# Altium integrated library TI Interface Display.IntLib: 133 symbols (part 6 of 16)
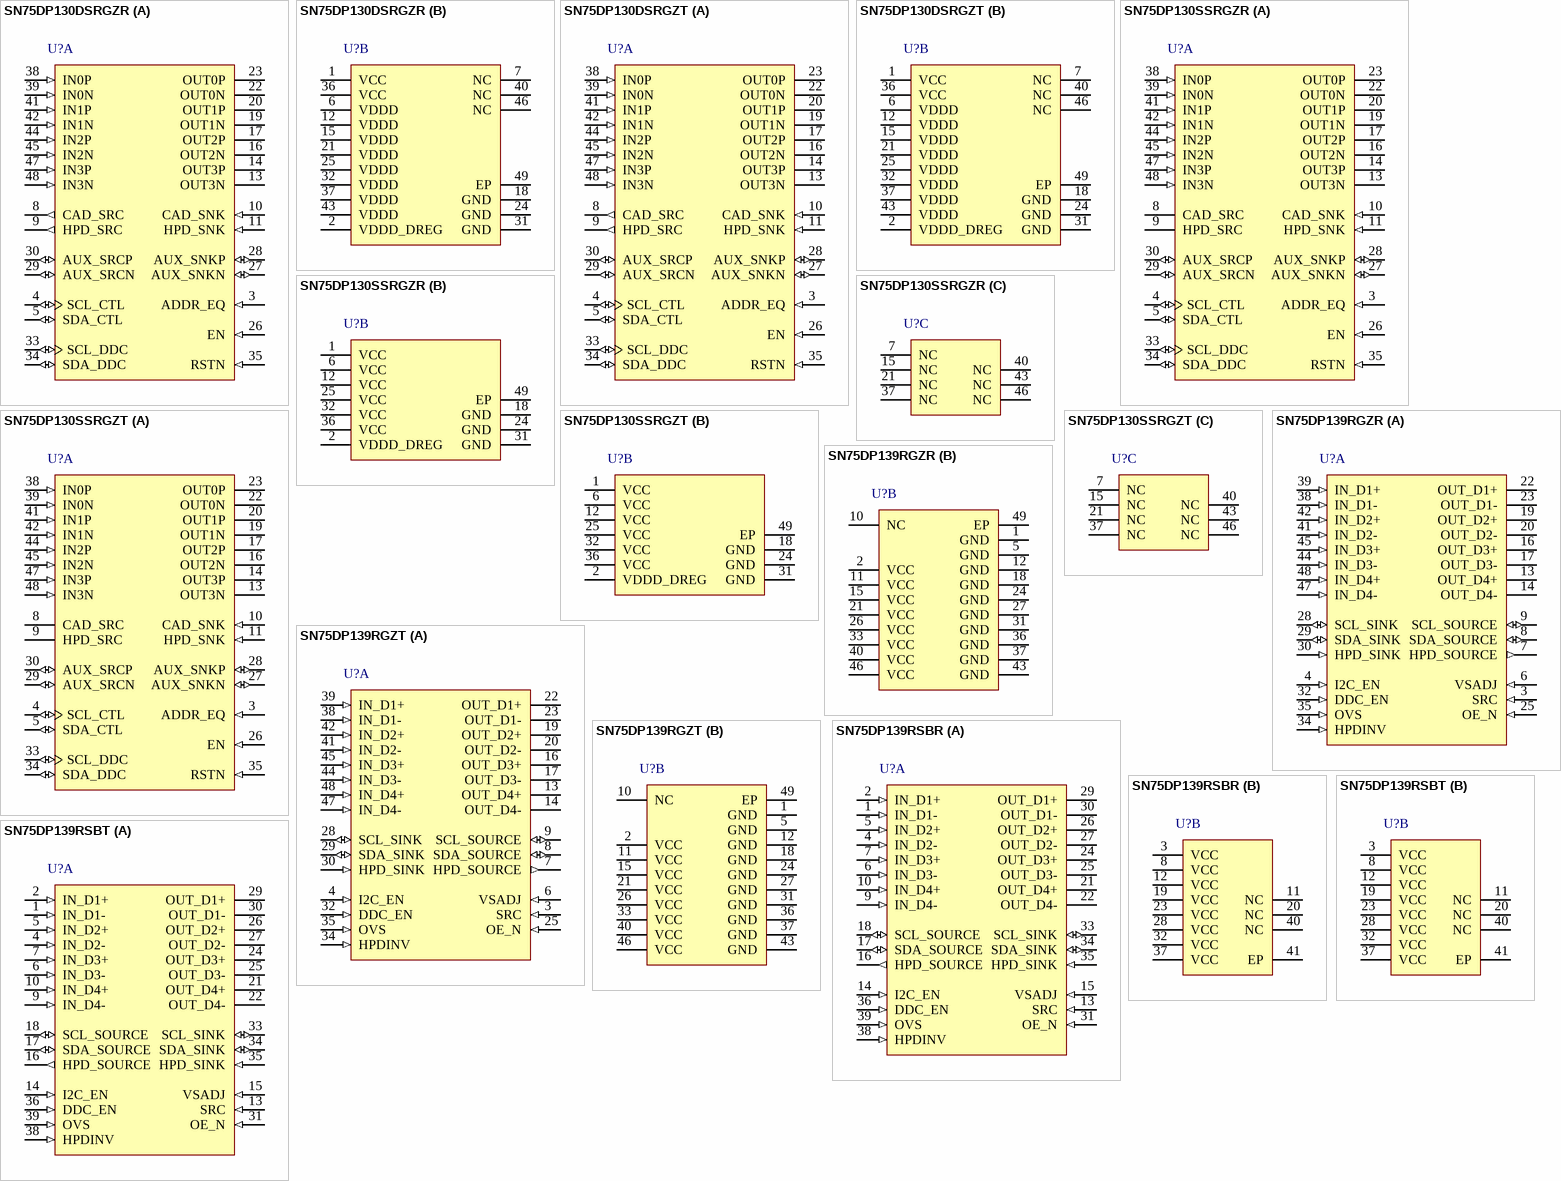
[diagram p19: symbols SN75DP130DSRGZR to SN75DP139RSBT]

## SN75DP130SSRGZR
designator U?
DisplayPort v1.2 (5.4Gbps) Re-Driver with Link Training, 0 to +85 degC, 48-pin VQFN (RGZ), Green (RoHS & no Sb/Br); Manufacturer: Texas Instruments; PartNumber: SN75DP130SSRGZR; No. of DisplayPort Dual Mode Inputs: 1; DatasheetVersion: SLLSE57B; PackageVersion: revF, Jun-2011; PackageReference: RGZ48-5600X5600TP; PackageDescription: 48-Pin Plastic Quad Flatpack No-Lead, 7 x 7 mm Body, 0.5 mm Pitch; Supplier 1: Digi-Key; Supplier Part Number 1: 296-29377-2-ND; Supplier 2: Digi-Key; Supplier Part Number 2: 296-29377-1-ND; Supplier 3: Digi-Key; Supplier Part Number 3: 296-29377-6-ND; Supplier 4: Mouser; Supplier Part Number 4: 595-SN75DP130SSRGZR; No. of DisplayPort Dual Mode Outputs: 1; SubFamily: DisplayPort; Mounting Technology: Surface Mount; Code_JEDEC: MO-220; ComponentLink1Description: Datasheet; ComponentLink1URL: http://www.ti.com/general/docs/lit/getliterature.tsp?genericPartNumber=SN75DP130&fileType=pdf
footprint RGZ48-5600X5600TP (QFN, 48-Leads, Body 7x7mm, Pitch 0.5mm, Thermal Pad 5.6x5.6mm, TI Recommended)
part A pins: 3 ADDR_EQ (in) "I2C Target Address Select and EQ Configuration Input. If the I2C bus is used, this input setting selects the I2C target address.This input also configures the input EQ to the device.", 4 SCL_CTL (io) "Bidirectional I2C interface to configure the SN75DP130. This interface is active independent of the EN input but inactive when RSTN is low.", 5 SDA_CTL (io) "Bidirectional I2C interface to configure the SN75DP130. This interface is active independent of the EN input but inactive when RSTN is low.", 8 CAD_SRC (hiz) "DP Cable Adapter Detect Output. This output typically drives the GPU CAD input.", 9 HPD_SRC (hiz) "Hot Plug Detect Output to the DisplayPort Source.", 10 CAD_SNK (in) "DisplayPort Cable Adapter Detect Input. This input tolerates a 5V supply with a supply impedance higher than 90k ohm. A device internal zener diode limits the input voltage to 3.3V. An external 1M ohm resistor to GND is (See Datasheet)", 11 HPD_SNK (in) "DisplayPort Hot Plug Detect Input from Sink. This device input is 5V tolerant. Note: Pull this input high during compliance testing or use I2C control interface to go into compliance test mode and control HPD_SNK and HPD_SRC (See Datasheet)", 13 OUT3N (hiz) "DisplayPort Main Link Lane 3 Differential Output", 14 OUT3P (hiz) "DisplayPort Main Link Lane 3 Differential Output", 16 OUT2N (hiz) "DisplayPort Main Link Lane 2 Differential Output", 17 OUT2P (hiz) "DisplayPort Main Link Lane 2 Differential Output", 19 OUT1N (hiz) "DisplayPort Main Link Lane 1 Differential Output", 20 OUT1P (hiz) "DisplayPort Main Link Lane 1 Differential Output", 22 OUT0N (hiz) "DisplayPort Main Link Lane 0 Differential Output", 23 OUT0P (hiz) "DisplayPort Main Link Lane 0 Differential Output", 26 EN (in) "Device Enable. This input incorporates an internal pullup of 200k ohm.", 27 AUX_SNKN (io) "Sink Side Bidirectional DisplayPort Auxiliary Data Channel", 28 AUX_SNKP (io) "Sink Side Bidirectional DisplayPort Auxiliary Data Channel", 29 AUX_SRCN (io) "Source Side Bidirectional DisplayPort Auxiliary Data Channel. If the AUX_SNK channel is used for monitoring only, these signals are not used and may be left open.", 30 AUX_SRCP (io) "Source Side Bidirectional DisplayPort Auxiliary Data Channel. If the AUX_SNK channel is used for monitoring only, these signals are not used and may be left open.", 33 SCL_DDC (io) "Bidirectional I2C Display Data Channel (DDC) for TMDS mode. These signals may be utilized together with AUX_SNK to form a FET switch to short-circuit the AC coupling capacitors during TMDS operation in a DP++ Dual-Mode (See Datasheet)", 34 SDA_DDC (io) "Bidirectional I2C Display Data Channel (DDC) for TMDS mode. These signals may be utilized together with AUX_SNK to form a FET switch to short-circuit the AC coupling capacitors during TMDS operation in a DP++ Dual-Mode (See Datasheet)", 35 RSTN (in) "Active Low Device Reset. This input includes a 150k ohm resistor to the VDDD core supply. An external capacitor to GND is recommended on the RSTN input to provide a power-up delay. This signal is used to place the SN75DP130 (See Datasheet)", 38 IN0P (in) "DisplayPort Main Link Lane 0 Differential Input", 39 IN0N (in) "DisplayPort Main Link Lane 0 Differential Input", 41 IN1P (in) "DisplayPort Main Link Lane 1 Differential Input", 42 IN1N (in) "DisplayPort Main Link Lane 1 Differential Input", 44 IN2P (in) "DisplayPort Main Link Lane 2 Differential Input", 45 IN2N (in) "DisplayPort Main Link Lane 2 Differential Input", 47 IN3P (in) "DisplayPort Main Link Lane 3 Differential Input", 48 IN3N (in) "DisplayPort Main Link Lane 3 Differential Input"
part B pins: 1 VCC (power) "3.3V Supply", 2 VDDD_DREG (power) "Digital voltage regulator decoupling; install 1uF to GND.", 6 VCC (power) "3.3V Supply", 12 VCC (power) "3.3V Supply", 18 GND (power) "Ground. Reference GND connections include the device package exposed thermal pad.", 24 GND (power) "Ground. Reference GND connections include the device package exposed thermal pad.", 25 VCC (power) "3.3V Supply", 31 GND (power) "Ground. Reference GND connections include the device package exposed thermal pad.", 32 VCC (power) "3.3V Supply", 36 VCC (power) "3.3V Supply", 49 EP "Exposed Thermal Pad"
part C pins: 7 NC "No Connect. These terminals may be left unconnected, or connect to GND.", 15 NC "No Connect. These terminals may be left unconnected, or connect to GND.", 21 NC "No Connect. These terminals may be left unconnected, or connect to GND.", 37 NC "No Connect. These terminals may be left unconnected, or connect to GND.", 40 NC "No Connect. These terminals may be left unconnected, or connect to GND.", 43 NC "No Connect. These terminals may be left unconnected, or connect to GND.", 46 NC "No Connect. These terminals may be left unconnected, or connect to GND."

## SN75DP130SSRGZT
designator U?
DisplayPort v1.2 (5.4 Gbps) Re-Driver with Link Training with1 Dual Mode Output, 0 to +85 degC, 48-pin VQFN (RGZ), Green (RoHS & no Sb/Br); Manufacturer: Texas Instruments; PartNumber: SN75DP130SSRGZT; No. of DisplayPort Dual Mode Inputs: 1; DatasheetVersion: SLLSE57B; PackageVersion: revF, Jun-2011; PackageReference: RGZ48-5600X5600TP; PackageDescription: 48-Pin Plastic Quad Flatpack No-Lead, 7 x 7 mm Body, 0.5 mm Pitch; Supplier 1: Digi-Key; Supplier Part Number 1: SN75DP130SSRGZT-ND; Supplier 2: Newark; Supplier Part Number 2: 48T4599; Supplier 3: Mouser; Supplier Part Number 3: 595-SN75DP130SSRGZT; No. of DisplayPort Dual Mode Outputs: 1; SubFamily: DisplayPort; Mounting Technology: Surface Mount; Code_JEDEC: MO-220; ComponentLink1Description: Datasheet; ComponentLink1URL: http://www.ti.com/general/docs/lit/getliterature.tsp?genericPartNumber=SN75DP130&fileType=pdf
footprint RGZ48-5600X5600TP (QFN, 48-Leads, Body 7x7mm, Pitch 0.5mm, Thermal Pad 5.6x5.6mm, TI Recommended)
part A pins: 3 ADDR_EQ (in) "I2C Target Address Select and EQ Configuration Input. If the I2C bus is used, this input setting selects the I2C target address.This input also configures the input EQ to the device.", 4 SCL_CTL (io) "Bidirectional I2C interface to configure the SN75DP130. This interface is active independent of the EN input but inactive when RSTN is low.", 5 SDA_CTL (io) "Bidirectional I2C interface to configure the SN75DP130. This interface is active independent of the EN input but inactive when RSTN is low.", 8 CAD_SRC (hiz) "DP Cable Adapter Detect Output. This output typically drives the GPU CAD input.", 9 HPD_SRC (hiz) "Hot Plug Detect Output to the DisplayPort Source.", 10 CAD_SNK (in) "DisplayPort Cable Adapter Detect Input. This input tolerates a 5V supply with a supply impedance higher than 90k ohm. A device internal zener diode limits the input voltage to 3.3V. An external 1M ohm resistor to GND is (See Datasheet)", 11 HPD_SNK (in) "DisplayPort Hot Plug Detect Input from Sink. This device input is 5V tolerant. Note: Pull this input high during compliance testing or use I2C control interface to go into compliance test mode and control HPD_SNK and HPD_SRC (See Datasheet)", 13 OUT3N (hiz) "DisplayPort Main Link Lane 3 Differential Output", 14 OUT3P (hiz) "DisplayPort Main Link Lane 3 Differential Output", 16 OUT2N (hiz) "DisplayPort Main Link Lane 2 Differential Output", 17 OUT2P (hiz) "DisplayPort Main Link Lane 2 Differential Output", 19 OUT1N (hiz) "DisplayPort Main Link Lane 1 Differential Output", 20 OUT1P (hiz) "DisplayPort Main Link Lane 1 Differential Output", 22 OUT0N (hiz) "DisplayPort Main Link Lane 0 Differential Output", 23 OUT0P (hiz) "DisplayPort Main Link Lane 0 Differential Output", 26 EN (in) "Device Enable. This input incorporates an internal pullup of 200k ohm.", 27 AUX_SNKN (io) "Sink Side Bidirectional DisplayPort Auxiliary Data Channel", 28 AUX_SNKP (io) "Sink Side Bidirectional DisplayPort Auxiliary Data Channel", 29 AUX_SRCN (io) "Source Side Bidirectional DisplayPort Auxiliary Data Channel. If the AUX_SNK channel is used for monitoring only, these signals are not used and may be left open.", 30 AUX_SRCP (io) "Source Side Bidirectional DisplayPort Auxiliary Data Channel. If the AUX_SNK channel is used for monitoring only, these signals are not used and may be left open.", 33 SCL_DDC (io) "Bidirectional I2C Display Data Channel (DDC) for TMDS mode. These signals may be utilized together with AUX_SNK to form a FET switch to short-circuit the AC coupling capacitors during TMDS operation in a DP++ Dual-Mode (See Datasheet)", 34 SDA_DDC (io) "Bidirectional I2C Display Data Channel (DDC) for TMDS mode. These signals may be utilized together with AUX_SNK to form a FET switch to short-circuit the AC coupling capacitors during TMDS operation in a DP++ Dual-Mode (See Datasheet)", 35 RSTN (in) "Active Low Device Reset. This input includes a 150k ohm resistor to the VDDD core supply. An external capacitor to GND is recommended on the RSTN input to provide a power-up delay. This signal is used to place the SN75DP130 (See Datasheet)", 38 IN0P (in) "DisplayPort Main Link Lane 0 Differential Input", 39 IN0N (in) "DisplayPort Main Link Lane 0 Differential Input", 41 IN1P (in) "DisplayPort Main Link Lane 1 Differential Input", 42 IN1N (in) "DisplayPort Main Link Lane 1 Differential Input", 44 IN2P (in) "DisplayPort Main Link Lane 2 Differential Input", 45 IN2N (in) "DisplayPort Main Link Lane 2 Differential Input", 47 IN3P (in) "DisplayPort Main Link Lane 3 Differential Input", 48 IN3N (in) "DisplayPort Main Link Lane 3 Differential Input"
part B pins: 1 VCC (power) "3.3V Supply", 2 VDDD_DREG (power) "Digital voltage regulator decoupling; install 1uF to GND.", 6 VCC (power) "3.3V Supply", 12 VCC (power) "3.3V Supply", 18 GND (power) "Ground. Reference GND connections include the device package exposed thermal pad.", 24 GND (power) "Ground. Reference GND connections include the device package exposed thermal pad.", 25 VCC (power) "3.3V Supply", 31 GND (power) "Ground. Reference GND connections include the device package exposed thermal pad.", 32 VCC (power) "3.3V Supply", 36 VCC (power) "3.3V Supply", 49 EP "Exposed Thermal Pad"
part C pins: 7 NC "No Connect. These terminals may be left unconnected, or connect to GND.", 15 NC "No Connect. These terminals may be left unconnected, or connect to GND.", 21 NC "No Connect. These terminals may be left unconnected, or connect to GND.", 37 NC "No Connect. These terminals may be left unconnected, or connect to GND.", 40 NC "No Connect. These terminals may be left unconnected, or connect to GND.", 43 NC "No Connect. These terminals may be left unconnected, or connect to GND.", 46 NC "No Connect. These terminals may be left unconnected, or connect to GND."

## SN75DP139RGZR
designator U?
DisplayPort to TMDS Translator, 0 to +85 degC, 48-pin VQFN (RGZ), Green (RoHS & no Sb/Br); Manufacturer: Texas Instruments; PartNumber: SN75DP139RGZR; No. of DisplayPort Dual Mode Inputs: 1; DatasheetVersion: SLLS977B; PackageVersion: revF, Jun-2011; PackageReference: RGZ48-4100X4100TP; PackageDescription: 48-Pin Plastic Quad Flatpack No-Lead, 7 x 7 mm Body, 0.5 mm Pitch; Supplier 1: Digi-Key; Supplier Part Number 1: 296-24334-2-ND; Supplier 2: Digi-Key; Supplier Part Number 2: 296-24334-1-ND; Supplier 3: Digi-Key; Supplier Part Number 3: 296-24334-6-ND; Supplier 4: Newark; Supplier Part Number 4: 09R5452; Supplier 5: Mouser; Supplier Part Number 5: 595-SN75DP139RGZR; No. of TMDS Outputs: 1; SubFamily: DisplayPort; Mounting Technology: Surface Mount; Code_JEDEC: MO-220; ComponentLink1Description: Datasheet; ComponentLink1URL: http://www.ti.com/general/docs/lit/getliterature.tsp?genericPartNumber=SN75DP139&fileType=pdf
footprint RGZ48-4100X4100TP (QFN, 48-Leads, Body 7x7mm, Pitch 0.5mm, Thermal Pad 5.15x5.15mm, TI Recommended)
part A pins: 3 SRC (in) "TMDS outputs rise and fall time select", 4 I2C_EN (in) "Internal I2C register enable, used for HDMI / DVI connector differentiation", 6 VSADJ (in) "TMDS Compliant Voltage Swing Control", 7 HPD_SOURCE (out) "Hot Plug Detect Output", 8 SDA_SOURCE (io) "Source Side Bidirectional DisplayPort Auxiliary Data Line", 9 SCL_SOURCE (io) "Source Side Bidirectional DisplayPort Auxiliary Data Line", 13 OUT_D4+ (hiz) "TMDS Data Clock Differential Output", 14 OUT_D4- (hiz) "TMDS Data Clock Differential Output", 16 OUT_D3+ (hiz) "TMDS Data 0 Differential Output", 17 OUT_D3- (hiz) "TMDS Data 0 Differential Output", 19 OUT_D2+ (hiz) "TMDS Data 1 Differential Output", 20 OUT_D2- (hiz) "TMDS Data 1 Differential Output", 22 OUT_D1+ (hiz) "TMDS Data 2 Differential Output", 23 OUT_D1- (hiz) "TMDS Data 2 Differential Output", 25 OE_N (in) "Output Enable and power saving function for High Speed Differential level shifter path.", 28 SCL_SINK (io) "TMDS Port Bidirectional DDC Data Lines", 29 SDA_SINK (io) "TMDS Port Bidirectional DDC Data Lines", 30 HPD_SINK (in) "Hot Plug Detect Input", 32 DDC_EN (in) "Enables or Disables the DDC I2C buffer", 34 HPDINV (in) "HPD_SOURCE Logic and Level Select", 35 OVS (in) "DDC I2C buffer offset select", 38 IN_D1- (in) "DisplayPort Main Link Channel 0 Differential Input", 39 IN_D1+ (in) "DisplayPort Main Link Channel 0 Differential Input", 41 IN_D2- (in) "DisplayPort Main Link Channel 1 Differential Input", 42 IN_D2+ (in) "DisplayPort Main Link Channel 1 Differential Input", 44 IN_D3- (in) "DisplayPort Main Link Channel 2 Differential Input", 45 IN_D3+ (in) "DisplayPort Main Link Channel 2 Differential Input", 47 IN_D4- (in) "DisplayPort Main Link Channel 3 Differential Input", 48 IN_D4+ (in) "DisplayPort Main Link Channel 3 Differential Input"
part B pins: 1 GND (power) "Ground", 2 VCC (power) "3.3V Supply", 5 GND (power) "Ground", 10 NC "No Connect", 11 VCC (power) "3.3V Supply", 12 GND (power) "Ground", 15 VCC (power) "3.3V Supply", 18 GND (power) "Ground", 21 VCC (power) "3.3V Supply", 24 GND (power) "Ground", 26 VCC (power) "3.3V Supply", 27 GND (power) "Ground", 31 GND (power) "Ground", 33 VCC (power) "3.3V Supply", 36 GND (power) "Ground", 37 GND (power) "Ground", 40 VCC (power) "3.3V Supply", 43 GND (power) "Ground", 46 VCC (power) "3.3V Supply", 49 EP (power) "Exposed Pad"

## SN75DP139RGZT
designator U?
DisplayPort to TMDS Translator, 0 to +85 degC, 48-pin VQFN (RGZ), Green (RoHS & no Sb/Br); Manufacturer: Texas Instruments; PartNumber: SN75DP139RGZT; No. of DisplayPort Dual Mode Inputs: 1; DatasheetVersion: SLLS977B; PackageVersion: revF, Jun-2011; PackageReference: RGZ48-4100X4100TP; PackageDescription: 48-Pin Plastic Quad Flatpack No-Lead, 7 x 7 mm Body, 0.5 mm Pitch; Supplier 1: Digi-Key; Supplier Part Number 1: SN75DP139RGZT-ND; Supplier 2: Newark; Supplier Part Number 2: 09R5453; Supplier 3: Mouser; Supplier Part Number 3: 595-SN75DP139RGZT; No. of TMDS Outputs: 1; SubFamily: DisplayPort; Mounting Technology: Surface Mount; Code_JEDEC: MO-220; ComponentLink1Description: Datasheet; ComponentLink1URL: http://www.ti.com/general/docs/lit/getliterature.tsp?genericPartNumber=SN75DP139&fileType=pdf
footprint RGZ48-4100X4100TP (QFN, 48-Leads, Body 7x7mm, Pitch 0.5mm, Thermal Pad 5.15x5.15mm, TI Recommended)
part A pins: 3 SRC (in) "TMDS outputs rise and fall time select", 4 I2C_EN (in) "Internal I2C register enable, used for HDMI / DVI connector differentiation", 6 VSADJ (in) "TMDS Compliant Voltage Swing Control", 7 HPD_SOURCE (out) "Hot Plug Detect Output", 8 SDA_SOURCE (io) "Source Side Bidirectional DisplayPort Auxiliary Data Line", 9 SCL_SOURCE (io) "Source Side Bidirectional DisplayPort Auxiliary Data Line", 13 OUT_D4+ (hiz) "TMDS Data Clock Differential Output", 14 OUT_D4- (hiz) "TMDS Data Clock Differential Output", 16 OUT_D3+ (hiz) "TMDS Data 0 Differential Output", 17 OUT_D3- (hiz) "TMDS Data 0 Differential Output", 19 OUT_D2+ (hiz) "TMDS Data 1 Differential Output", 20 OUT_D2- (hiz) "TMDS Data 1 Differential Output", 22 OUT_D1+ (hiz) "TMDS Data 2 Differential Output", 23 OUT_D1- (hiz) "TMDS Data 2 Differential Output", 25 OE_N (in) "Output Enable and power saving function for High Speed Differential level shifter path.", 28 SCL_SINK (io) "TMDS Port Bidirectional DDC Data Lines", 29 SDA_SINK (io) "TMDS Port Bidirectional DDC Data Lines", 30 HPD_SINK (in) "Hot Plug Detect Input", 32 DDC_EN (in) "Enables or Disables the DDC I2C buffer", 34 HPDINV (in) "HPD_SOURCE Logic and Level Select", 35 OVS (in) "DDC I2C buffer offset select", 38 IN_D1- (in) "DisplayPort Main Link Channel 0 Differential Input", 39 IN_D1+ (in) "DisplayPort Main Link Channel 0 Differential Input", 41 IN_D2- (in) "DisplayPort Main Link Channel 1 Differential Input", 42 IN_D2+ (in) "DisplayPort Main Link Channel 1 Differential Input", 44 IN_D3- (in) "DisplayPort Main Link Channel 2 Differential Input", 45 IN_D3+ (in) "DisplayPort Main Link Channel 2 Differential Input", 47 IN_D4- (in) "DisplayPort Main Link Channel 3 Differential Input", 48 IN_D4+ (in) "DisplayPort Main Link Channel 3 Differential Input"
part B pins: 1 GND (power) "Ground", 2 VCC (power) "3.3V Supply", 5 GND (power) "Ground", 10 NC "No Connect", 11 VCC (power) "3.3V Supply", 12 GND (power) "Ground", 15 VCC (power) "3.3V Supply", 18 GND (power) "Ground", 21 VCC (power) "3.3V Supply", 24 GND (power) "Ground", 26 VCC (power) "3.3V Supply", 27 GND (power) "Ground", 31 GND (power) "Ground", 33 VCC (power) "3.3V Supply", 36 GND (power) "Ground", 37 GND (power) "Ground", 40 VCC (power) "3.3V Supply", 43 GND (power) "Ground", 46 VCC (power) "3.3V Supply", 49 EP (power) "Exposed Pad"

## SN75DP139RSBR
designator U?
DisplayPort to TMDS Translator, 0 to +85 degC, 40-pin WQFN (RSB), Green (RoHS & no Sb/Br); Manufacturer: Texas Instruments; PartNumber: SN75DP139RSBR; No. of DisplayPort Dual Mode Inputs: 1; DatasheetVersion: SLLS977B; PackageVersion: revC, May-2011; PackageReference: RSB40-3150X3150TP; PackageDescription: 40-Pin Plastic Quad Flatpack No-Lead, 5 x 5 mm Body, 0.4 mm Pitch, 3.15 x 3.15 mm Exposed Pad; Supplier 1: Digi-Key; Supplier Part Number 1: 296-30046-2-ND; Supplier 2: Digi-Key; Supplier Part Number 2: 296-30046-1-ND; Supplier 3: Digi-Key; Supplier Part Number 3: 296-30046-6-ND; Supplier 4: Newark; Supplier Part Number 4: 76T7418; Supplier 5: Mouser; Supplier Part Number 5: 595-SN75DP139RSBR; No. of TMDS Outputs: 1; SubFamily: DisplayPort; Mounting Technology: Surface Mount; ComponentLink1Description: Datasheet; ComponentLink1URL: http://www.ti.com/general/docs/lit/getliterature.tsp?genericPartNumber=SN75DP139&fileType=pdf
footprint RSB40-3150X3150TP (QFN, 40-Leads, Body 5x5mm, Pitch 0.4mm, Thermal Pad 3.15x3.15mm, TI Recommended)
part A pins: 1 IN_D1- (in) "DisplayPort Main Link Channel 0 Differential Input", 2 IN_D1+ (in) "DisplayPort Main Link Channel 0 Differential Input", 4 IN_D2- (in) "DisplayPort Main Link Channel 1 Differential Input", 5 IN_D2+ (in) "DisplayPort Main Link Channel 1 Differential Input", 6 IN_D3- (in) "DisplayPort Main Link Channel 2 Differential Input", 7 IN_D3+ (in) "DisplayPort Main Link Channel 2 Differential Input", 9 IN_D4- (in) "DisplayPort Main Link Channel 3 Differential Input", 10 IN_D4+ (in) "DisplayPort Main Link Channel 3 Differential Input", 13 SRC (in) "TMDS outputs rise and fall time select", 14 I2C_EN (in) "Internal I2C register enable, used for HDMI / DVI connector differentiation", 15 VSADJ (in) "TMDS Compliant Voltage Swing Control", 16 HPD_SOURCE (out) "Hot Plug Detect Output", 17 SDA_SOURCE (io) "Source Side Bidirectional DisplayPort Auxiliary Data Line", 18 SCL_SOURCE (io) "Source Side Bidirectional DisplayPort Auxiliary Data Line", 21 OUT_D4+ (hiz) "TMDS Data Clock Differential Output", 22 OUT_D4- (hiz) "TMDS Data Clock Differential Output", 24 OUT_D3+ (hiz) "TMDS Data 0 Differential Output", 25 OUT_D3- (hiz) "TMDS Data 0 Differential Output", 26 OUT_D2+ (hiz) "TMDS Data 1 Differential Output", 27 OUT_D2- (hiz) "TMDS Data 1 Differential Output", 29 OUT_D1+ (hiz) "TMDS Data 2 Differential Output", 30 OUT_D1- (hiz) "TMDS Data 2 Differential Output", 31 OE_N (in) "Output Enable and power saving function for High Speed Differential level shifter path.", 33 SCL_SINK (io) "TMDS Port Bidirectional DDC Data Lines", 34 SDA_SINK (io) "TMDS Port Bidirectional DDC Data Lines", 35 HPD_SINK (in) "Hot Plug Detect Input", 36 DDC_EN (in) "Enables or Disables the DDC I2C buffer", 38 HPDINV (in) "HPD_SOURCE Logic and Level Select", 39 OVS (in) "DDC I2C buffer offset select"
part B pins: 3 VCC (power) "3.3V Supply", 8 VCC (power) "3.3V Supply", 11 NC "No Connect", 12 VCC (power) "3.3V Supply", 19 VCC (power) "3.3V Supply", 20 NC "No Connect", 23 VCC (power) "3.3V Supply", 28 VCC (power) "3.3V Supply", 32 VCC (power) "3.3V Supply", 37 VCC (power) "3.3V Supply", 40 NC "No Connect", 41 EP (power) "Thermal Pad"

## SN75DP139RSBT
designator U?
DisplayPort to TMDS Translator, 0 to +85 degC, 40-pin WQFN (RSB), Green (RoHS & no Sb/Br); Manufacturer: Texas Instruments; PartNumber: SN75DP139RSBT; No. of DisplayPort Dual Mode Inputs: 1; DatasheetVersion: SLLS977B; PackageVersion: revC, May-2011; PackageReference: RSB40-3150X3150TP; PackageDescription: 40-Pin Plastic Quad Flatpack No-Lead, 5 x 5 mm Body, 0.4 mm Pitch, 3.15 x 3.15 mm Exposed Pad; Supplier 1: Digi-Key; Supplier Part Number 1: SN75DP139RSBT-ND; Supplier 2: Newark; Supplier Part Number 2: 76T7419; Supplier 3: Mouser; Supplier Part Number 3: 595-SN75DP139RSBT; No. of TMDS Outputs: 1; SubFamily: DisplayPort; Mounting Technology: Surface Mount; ComponentLink1Description: Datasheet; ComponentLink1URL: http://www.ti.com/general/docs/lit/getliterature.tsp?genericPartNumber=SN75DP139&fileType=pdf
footprint RSB40-3150X3150TP (QFN, 40-Leads, Body 5x5mm, Pitch 0.4mm, Thermal Pad 3.15x3.15mm, TI Recommended)
part A pins: 1 IN_D1- (in) "DisplayPort Main Link Channel 0 Differential Input", 2 IN_D1+ (in) "DisplayPort Main Link Channel 0 Differential Input", 4 IN_D2- (in) "DisplayPort Main Link Channel 1 Differential Input", 5 IN_D2+ (in) "DisplayPort Main Link Channel 1 Differential Input", 6 IN_D3- (in) "DisplayPort Main Link Channel 2 Differential Input", 7 IN_D3+ (in) "DisplayPort Main Link Channel 2 Differential Input", 9 IN_D4- (in) "DisplayPort Main Link Channel 3 Differential Input", 10 IN_D4+ (in) "DisplayPort Main Link Channel 3 Differential Input", 13 SRC (in) "TMDS outputs rise and fall time select", 14 I2C_EN (in) "Internal I2C register enable, used for HDMI / DVI connector differentiation", 15 VSADJ (in) "TMDS Compliant Voltage Swing Control", 16 HPD_SOURCE (out) "Hot Plug Detect Output", 17 SDA_SOURCE (io) "Source Side Bidirectional DisplayPort Auxiliary Data Line", 18 SCL_SOURCE (io) "Source Side Bidirectional DisplayPort Auxiliary Data Line", 21 OUT_D4+ (hiz) "TMDS Data Clock Differential Output", 22 OUT_D4- (hiz) "TMDS Data Clock Differential Output", 24 OUT_D3+ (hiz) "TMDS Data 0 Differential Output", 25 OUT_D3- (hiz) "TMDS Data 0 Differential Output", 26 OUT_D2+ (hiz) "TMDS Data 1 Differential Output", 27 OUT_D2- (hiz) "TMDS Data 1 Differential Output", 29 OUT_D1+ (hiz) "TMDS Data 2 Differential Output", 30 OUT_D1- (hiz) "TMDS Data 2 Differential Output", 31 OE_N (in) "Output Enable and power saving function for High Speed Differential level shifter path.", 33 SCL_SINK (io) "TMDS Port Bidirectional DDC Data Lines", 34 SDA_SINK (io) "TMDS Port Bidirectional DDC Data Lines", 35 HPD_SINK (in) "Hot Plug Detect Input", 36 DDC_EN (in) "Enables or Disables the DDC I2C buffer", 38 HPDINV (in) "HPD_SOURCE Logic and Level Select", 39 OVS (in) "DDC I2C buffer offset select"
part B pins: 3 VCC (power) "3.3V Supply", 8 VCC (power) "3.3V Supply", 11 NC "No Connect", 12 VCC (power) "3.3V Supply", 19 VCC (power) "3.3V Supply", 20 NC "No Connect", 23 VCC (power) "3.3V Supply", 28 VCC (power) "3.3V Supply", 32 VCC (power) "3.3V Supply", 37 VCC (power) "3.3V Supply", 40 NC "No Connect", 41 EP (power) "Thermal Pad"

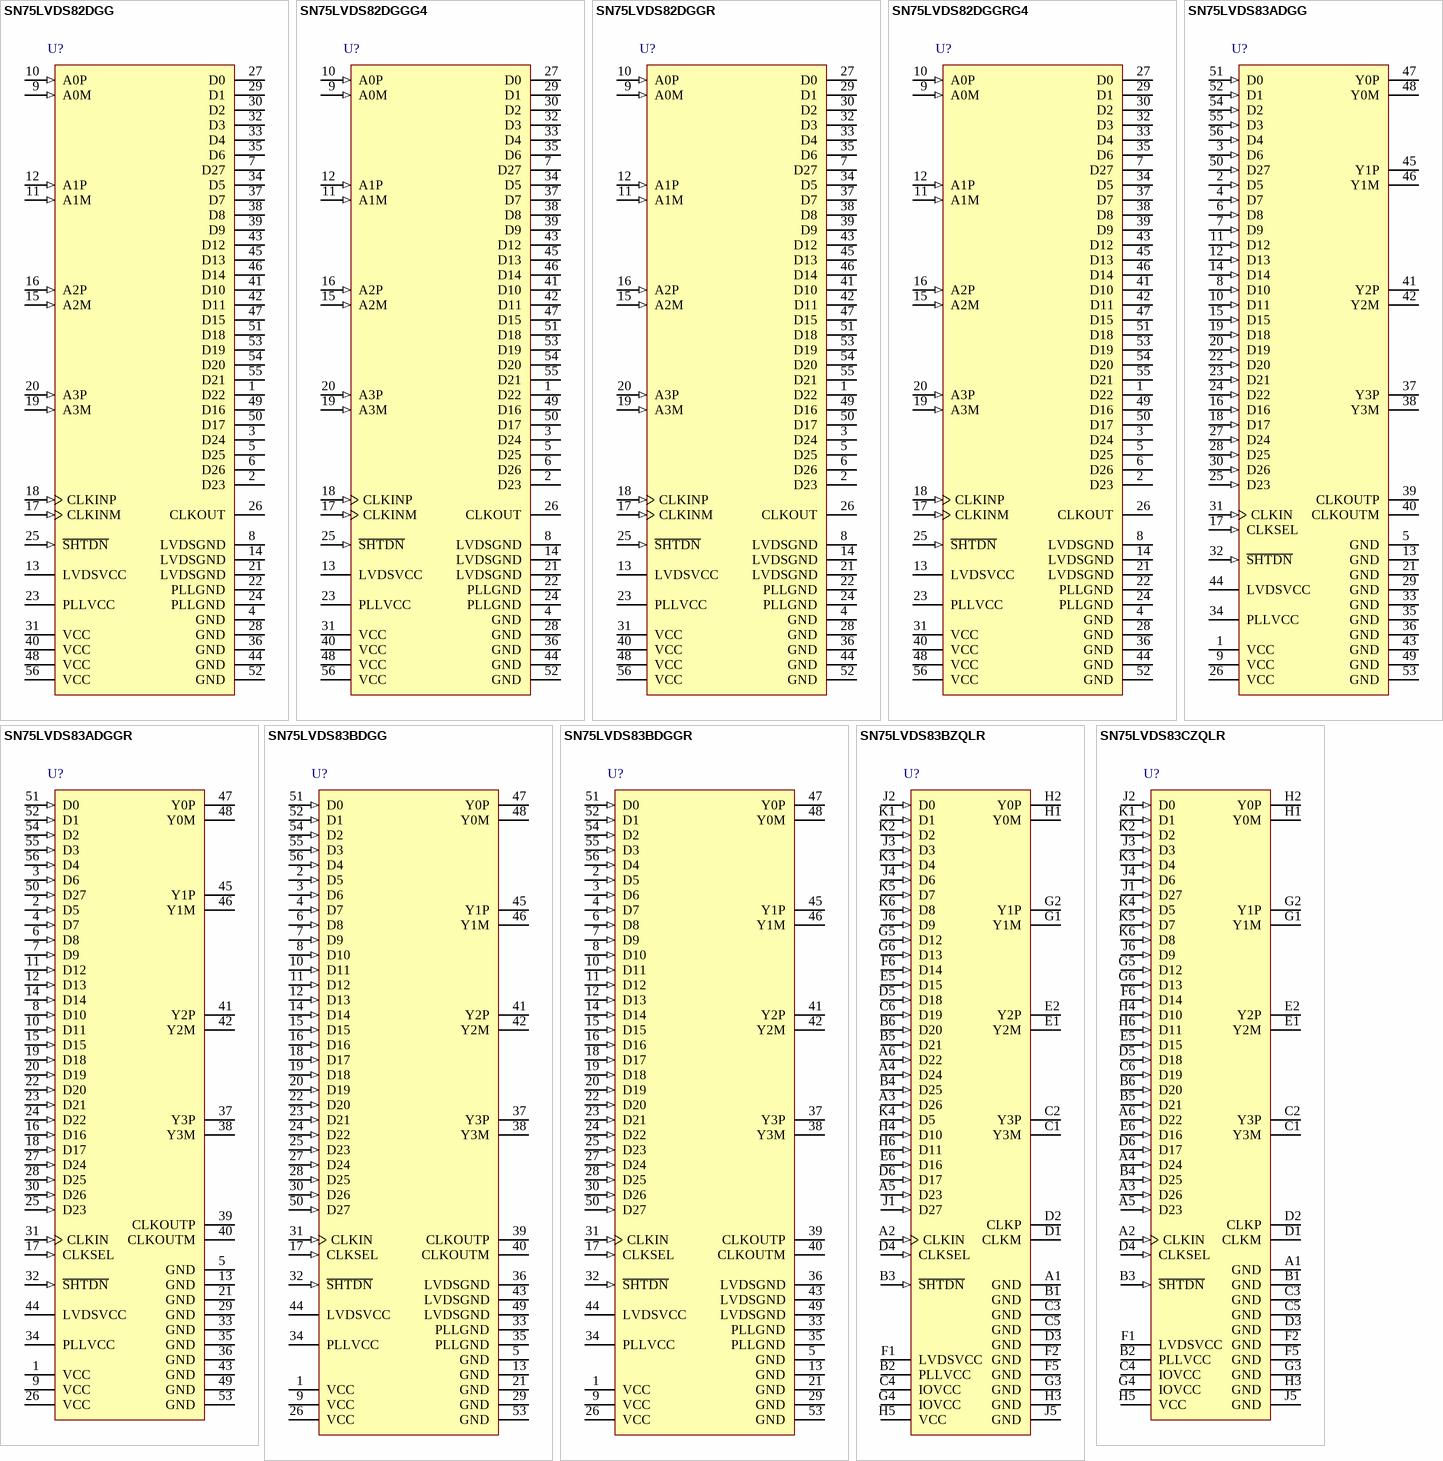
[diagram p6: symbols SN75LVDS82DGG to SN75LVDS83CZQLR]

## SN75LVDS82DGG
designator U?
227.5 MB/s FlatLink™ Receiver with 4 Receiver Channels, 3.3 V, 0 to +70 degC, 56-pin TSSOP (DGG), Green (RoHS & no Sb/Br); Manufacturer: Texas Instruments; PartNumber: SN75LVDS82DGG; Data Throughput(MB/s): 227.5; Number of Parallel Outputs: 28; PLL Frequency(MHz): 31 - 68; Receiver (Vth)(mV): 100; Receiver tpd(ns): 8.7; Serial Data Receiver Channels: 4; SubFamily: FlatLink (LVDS for LCD); Supply Voltage(s)(V): 3.3; Type of Line Circuit: LVDS; DatasheetVersion: SLLS259I; PackageVersion: revF, Dec-1997; PackageReference: DGG56; PackageDescription: 56-Pin Plastic Small Outline 0.5 mm Pitch; Supplier 1: Digi-Key; Supplier Part Number 1: 296-34181-5-ND; Supplier 2: Newark; Supplier Part Number 2: 76C5292; Supplier 3: Mouser; Supplier Part Number 3: 595-SN75LVDS82DGG; Eco-Plan: Green (RoHS & no Sb/Br); Mounting Technology: Surface Mount; Code_JEDEC: MO-153; ComponentLink1Description: Datasheet; ComponentLink1URL: http://www.ti.com/general/docs/lit/getliterature.tsp?genericPartNumber=SN75LVDS82&fileType=pdf; ComponentLink2Description: URL Link1; ComponentLink2URL: SamplesURL:http://www.ti.com/product/sn75lvds82#samples
footprint DGG56_N (TSSOP, 56-Leads, Body 14x6.1mm, Pitch 0.5mm, IPC Medium Density)
footprint DGG56_L (TSSOP, 56-Leads, Body 14x6.1mm, Pitch 0.5mm, IPC High Density)
footprint DGG56_M (TSSOP, 56-Leads, Body 14x6.1mm, Pitch 0.5mm, IPC Low Density)
pins: 1 D22 (hiz), 2 D23 (hiz), 3 D24 (hiz), 4 GND (power), 5 D25 (hiz), 6 D26 (hiz), 7 D27 (hiz), 8 LVDSGND (power), 9 A0M (in), 10 A0P (in), 11 A1M (in), 12 A1P (in), 13 LVDSVCC (power), 14 LVDSGND (power), 15 A2M (in), 16 A2P (in), 17 CLKINM (in), 18 CLKINP (in), 19 A3M (in), 20 A3P (in), 21 LVDSGND (power), 22 PLLGND (power), 23 PLLVCC (power), 24 PLLGND (power), 25 ~{SHTDN} (in), 26 CLKOUT (hiz), 27 D0 (hiz), 28 GND (power), 29 D1 (hiz), 30 D2 (hiz), 31 VCC (power), 32 D3 (hiz), 33 D4 (hiz), 34 D5 (hiz), 35 D6 (hiz), 36 GND (power), 37 D7 (hiz), 38 D8 (hiz), 39 D9 (hiz), 40 VCC (power), 41 D10 (hiz), 42 D11 (hiz), 43 D12 (hiz), 44 GND (power), 45 D13 (hiz), 46 D14 (hiz), 47 D15 (hiz), 48 VCC (power), 49 D16 (hiz), 50 D17 (hiz), 51 D18 (hiz), 52 GND (power), 53 D19 (hiz), 54 D20 (hiz), 55 D21 (hiz), 56 VCC (power)

## SN75LVDS82DGGG4
designator U?
227.5 MB/s FlatLink™ Receiver with 4 Receiver Channels, 3.3 V, 0 to +70 degC, 56-pin TSSOP (DGG), Green (RoHS & no Sb/Br); Manufacturer: Texas Instruments; PartNumber: SN75LVDS82DGGG4; Data Throughput(MB/s): 227.5; Number of Parallel Outputs: 28; PLL Frequency(MHz): 31 - 68; Receiver (Vth)(mV): 100; Receiver tpd(ns): 8.7; Serial Data Receiver Channels: 4; SubFamily: FlatLink (LVDS for LCD); Supply Voltage(s)(V): 3.3; Type of Line Circuit: LVDS; DatasheetVersion: SLLS259I; PackageVersion: revF, Dec-1997; PackageReference: DGG56; PackageDescription: 56-Pin Plastic Small Outline 0.5 mm Pitch; Supplier 1: Digi-Key; Supplier Part Number 1: SN75LVDS82DGGG4-ND; Supplier 2: Newark; Supplier Part Number 2: 24K4894; Supplier 3: Mouser; Supplier Part Number 3: 595-SN75LVDS82DGGG4; Eco-Plan: Green (RoHS & no Sb/Br); Mounting Technology: Surface Mount; Code_JEDEC: MO-153; ComponentLink1Description: Datasheet; ComponentLink1URL: http://www.ti.com/general/docs/lit/getliterature.tsp?genericPartNumber=SN75LVDS82&fileType=pdf; ComponentLink2Description: URL Link1; ComponentLink2URL: SamplesURL:http://www.ti.com/product/sn75lvds82#samples
footprint DGG56_N (TSSOP, 56-Leads, Body 14x6.1mm, Pitch 0.5mm, IPC Medium Density)
footprint DGG56_L (TSSOP, 56-Leads, Body 14x6.1mm, Pitch 0.5mm, IPC High Density)
footprint DGG56_M (TSSOP, 56-Leads, Body 14x6.1mm, Pitch 0.5mm, IPC Low Density)
pins: 1 D22 (hiz), 2 D23 (hiz), 3 D24 (hiz), 4 GND (power), 5 D25 (hiz), 6 D26 (hiz), 7 D27 (hiz), 8 LVDSGND (power), 9 A0M (in), 10 A0P (in), 11 A1M (in), 12 A1P (in), 13 LVDSVCC (power), 14 LVDSGND (power), 15 A2M (in), 16 A2P (in), 17 CLKINM (in), 18 CLKINP (in), 19 A3M (in), 20 A3P (in), 21 LVDSGND (power), 22 PLLGND (power), 23 PLLVCC (power), 24 PLLGND (power), 25 ~{SHTDN} (in), 26 CLKOUT (hiz), 27 D0 (hiz), 28 GND (power), 29 D1 (hiz), 30 D2 (hiz), 31 VCC (power), 32 D3 (hiz), 33 D4 (hiz), 34 D5 (hiz), 35 D6 (hiz), 36 GND (power), 37 D7 (hiz), 38 D8 (hiz), 39 D9 (hiz), 40 VCC (power), 41 D10 (hiz), 42 D11 (hiz), 43 D12 (hiz), 44 GND (power), 45 D13 (hiz), 46 D14 (hiz), 47 D15 (hiz), 48 VCC (power), 49 D16 (hiz), 50 D17 (hiz), 51 D18 (hiz), 52 GND (power), 53 D19 (hiz), 54 D20 (hiz), 55 D21 (hiz), 56 VCC (power)

## SN75LVDS82DGGR
designator U?
227.5 MB/s FlatLink™ Receiver with 4 Receiver Channels, 3.3 V, 0 to +70 degC, 56-pin TSSOP (DGG), Green (RoHS & no Sb/Br); Manufacturer: Texas Instruments; PartNumber: SN75LVDS82DGGR; Data Throughput(MB/s): 227.5; Number of Parallel Outputs: 28; PLL Frequency(MHz): 31 - 68; Receiver (Vth)(mV): 100; Receiver tpd(ns): 8.7; Serial Data Receiver Channels: 4; SubFamily: FlatLink (LVDS for LCD); Supply Voltage(s)(V): 3.3; Type of Line Circuit: LVDS; DatasheetVersion: SLLS259I; PackageVersion: revF, Dec-1997; PackageReference: DGG56; PackageDescription: 56-Pin Plastic Small Outline 0.5 mm Pitch; Supplier 1: Digi-Key; Supplier Part Number 1: 296-6666-2-ND; Supplier 2: Digi-Key; Supplier Part Number 2: 296-6666-1-ND; Supplier 3: Digi-Key; Supplier Part Number 3: 296-6666-6-ND; Supplier 4: Newark; Supplier Part Number 4: 76C5293; Supplier 5: Mouser; Supplier Part Number 5: 595-SN75LVDS82DGGR; Eco-Plan: Green (RoHS & no Sb/Br); Mounting Technology: Surface Mount; Code_JEDEC: MO-153; ComponentLink1Description: Datasheet; ComponentLink1URL: http://www.ti.com/general/docs/lit/getliterature.tsp?genericPartNumber=SN75LVDS82&fileType=pdf; ComponentLink2Description: URL Link1; ComponentLink2URL: SamplesURL:http://www.ti.com/product/sn75lvds82#samples
footprint DGG56_N (TSSOP, 56-Leads, Body 14x6.1mm, Pitch 0.5mm, IPC Medium Density)
footprint DGG56_L (TSSOP, 56-Leads, Body 14x6.1mm, Pitch 0.5mm, IPC High Density)
footprint DGG56_M (TSSOP, 56-Leads, Body 14x6.1mm, Pitch 0.5mm, IPC Low Density)
pins: 1 D22 (hiz), 2 D23 (hiz), 3 D24 (hiz), 4 GND (power), 5 D25 (hiz), 6 D26 (hiz), 7 D27 (hiz), 8 LVDSGND (power), 9 A0M (in), 10 A0P (in), 11 A1M (in), 12 A1P (in), 13 LVDSVCC (power), 14 LVDSGND (power), 15 A2M (in), 16 A2P (in), 17 CLKINM (in), 18 CLKINP (in), 19 A3M (in), 20 A3P (in), 21 LVDSGND (power), 22 PLLGND (power), 23 PLLVCC (power), 24 PLLGND (power), 25 ~{SHTDN} (in), 26 CLKOUT (hiz), 27 D0 (hiz), 28 GND (power), 29 D1 (hiz), 30 D2 (hiz), 31 VCC (power), 32 D3 (hiz), 33 D4 (hiz), 34 D5 (hiz), 35 D6 (hiz), 36 GND (power), 37 D7 (hiz), 38 D8 (hiz), 39 D9 (hiz), 40 VCC (power), 41 D10 (hiz), 42 D11 (hiz), 43 D12 (hiz), 44 GND (power), 45 D13 (hiz), 46 D14 (hiz), 47 D15 (hiz), 48 VCC (power), 49 D16 (hiz), 50 D17 (hiz), 51 D18 (hiz), 52 GND (power), 53 D19 (hiz), 54 D20 (hiz), 55 D21 (hiz), 56 VCC (power)

## SN75LVDS82DGGRG4
designator U?
227.5 MB/s FlatLink™ Receiver with 4 Receiver Channels, 3.3 V, 0 to +70 degC, 56-pin TSSOP (DGG), Green (RoHS & no Sb/Br); Manufacturer: Texas Instruments; PartNumber: SN75LVDS82DGGRG4; Data Throughput(MB/s): 227.5; Number of Parallel Outputs: 28; PLL Frequency(MHz): 31 - 68; Receiver (Vth)(mV): 100; Receiver tpd(ns): 8.7; Serial Data Receiver Channels: 4; SubFamily: FlatLink (LVDS for LCD); Supply Voltage(s)(V): 3.3; Type of Line Circuit: LVDS; DatasheetVersion: SLLS259I; PackageVersion: revF, Dec-1997; PackageReference: DGG56; PackageDescription: 56-Pin Plastic Small Outline 0.5 mm Pitch; Supplier 1: Digi-Key; Supplier Part Number 1: SN75LVDS82DGGRG4-ND; Supplier 2: Newark; Supplier Part Number 2: 24K4895; Supplier 3: Mouser; Supplier Part Number 3: 595-SN75LVDS82DGGRG4; Eco-Plan: Green (RoHS & no Sb/Br); Mounting Technology: Surface Mount; Code_JEDEC: MO-153; ComponentLink1Description: Datasheet; ComponentLink1URL: http://www.ti.com/general/docs/lit/getliterature.tsp?genericPartNumber=SN75LVDS82&fileType=pdf; ComponentLink2Description: URL Link1; ComponentLink2URL: SamplesURL:http://www.ti.com/product/sn75lvds82#samples
footprint DGG56_N (TSSOP, 56-Leads, Body 14x6.1mm, Pitch 0.5mm, IPC Medium Density)
footprint DGG56_L (TSSOP, 56-Leads, Body 14x6.1mm, Pitch 0.5mm, IPC High Density)
footprint DGG56_M (TSSOP, 56-Leads, Body 14x6.1mm, Pitch 0.5mm, IPC Low Density)
pins: 1 D22 (hiz), 2 D23 (hiz), 3 D24 (hiz), 4 GND (power), 5 D25 (hiz), 6 D26 (hiz), 7 D27 (hiz), 8 LVDSGND (power), 9 A0M (in), 10 A0P (in), 11 A1M (in), 12 A1P (in), 13 LVDSVCC (power), 14 LVDSGND (power), 15 A2M (in), 16 A2P (in), 17 CLKINM (in), 18 CLKINP (in), 19 A3M (in), 20 A3P (in), 21 LVDSGND (power), 22 PLLGND (power), 23 PLLVCC (power), 24 PLLGND (power), 25 ~{SHTDN} (in), 26 CLKOUT (hiz), 27 D0 (hiz), 28 GND (power), 29 D1 (hiz), 30 D2 (hiz), 31 VCC (power), 32 D3 (hiz), 33 D4 (hiz), 34 D5 (hiz), 35 D6 (hiz), 36 GND (power), 37 D7 (hiz), 38 D8 (hiz), 39 D9 (hiz), 40 VCC (power), 41 D10 (hiz), 42 D11 (hiz), 43 D12 (hiz), 44 GND (power), 45 D13 (hiz), 46 D14 (hiz), 47 D15 (hiz), 48 VCC (power), 49 D16 (hiz), 50 D17 (hiz), 51 D18 (hiz), 52 GND (power), 53 D19 (hiz), 54 D20 (hiz), 55 D21 (hiz), 56 VCC (power)

## SN75LVDS83ADGG
designator U?
Flatlink 10-100MHz Transmitter with Receiver 4 Transmitter Channels, 3.3 V, -10 to +70 degC, 56-pin TSSOP (DGG), Green (RoHS & no Sb/Br); Manufacturer: Texas Instruments; PartNumber: SN75LVDS83ADGG; Driver (RL)(Ohms): 100; Driver tpd(ns): 14.2; Number of Parallel Inputs: 28; PLL Frequency(MHz): 10 - 100; Serial Data Transmitter Channels: 4; SubFamily: FlatLink (LVDS for LCD); Supply Voltage(s)(V): 3.3; Type of Line Circuit: LVDS; DatasheetVersion: SLLS980D; PackageVersion: revF, Dec-1997; PackageReference: DGG56; PackageDescription: 56-Pin Plastic Small Outline 0.5 mm Pitch; Supplier 1: Digi-Key; Supplier Part Number 1: 296-24867-5-ND; Supplier 2: Newark; Supplier Part Number 2: 24R9963; Supplier 3: Mouser; Supplier Part Number 3: 595-SN75LVDS83ADGG; Eco-Plan: Green (RoHS & no Sb/Br); Mounting Technology: Surface Mount; Code_JEDEC: MO-153; ComponentLink1Description: Datasheet; ComponentLink1URL: http://www.ti.com/general/docs/lit/getliterature.tsp?genericPartNumber=SN75LVDS83A&fileType=pdf; ComponentLink2Description: URL Link1; ComponentLink2URL: SamplesURL:http://www.ti.com/product/sn75lvds83a#samples
footprint DGG56_N (TSSOP, 56-Leads, Body 14x6.1mm, Pitch 0.5mm, IPC Medium Density)
footprint DGG56_L (TSSOP, 56-Leads, Body 14x6.1mm, Pitch 0.5mm, IPC High Density)
footprint DGG56_M (TSSOP, 56-Leads, Body 14x6.1mm, Pitch 0.5mm, IPC Low Density)
pins: 1 VCC (power) "3.3V digital Supply Voltage", 2 D5 (in) "Data inputs. To connect a graphic source successfully to a display, the bit assignment of D[27:0] is critical (and not necessarily intuitive).[see datasheet]", 3 D6 (in) "Data inputs. To connect a graphic source successfully to a display, the bit assignment of D[27:0] is critical (and not necessarily intuitive).[see datasheet]", 4 D7 (in) "Data inputs. To connect a graphic source successfully to a display, the bit assignment of D[27:0] is critical (and not necessarily intuitive).[see datasheet]", 5 GND (power) "Supply Ground for VCC, LVDSVCC, and PLLVCC.", 6 D8 (in) "Data inputs. To connect a graphic source successfully to a display, the bit assignment of D[27:0] is critical (and not necessarily intuitive).[see datasheet]", 7 D9 (in) "Data inputs. To connect a graphic source successfully to a display, the bit assignment of D[27:0] is critical (and not necessarily intuitive).[see datasheet]", 8 D10 (in) "Data inputs. To connect a graphic source successfully to a display, the bit assignment of D[27:0] is critical (and not necessarily intuitive).[see datasheet]", 9 VCC (power) "3.3V digital Supply Voltage", 10 D11 (in) "Data inputs. To connect a graphic source successfully to a display, the bit assignment of D[27:0] is critical (and not necessarily intuitive).[see datasheet]", 11 D12 (in) "Data inputs. To connect a graphic source successfully to a display, the bit assignment of D[27:0] is critical (and not necessarily intuitive).[see datasheet]", 12 D13 (in) "Data inputs. To connect a graphic source successfully to a display, the bit assignment of D[27:0] is critical (and not necessarily intuitive).[see datasheet]", 13 GND (power) "Supply Ground for VCC, LVDSVCC, and PLLVCC.", 14 D14 (in) "Data inputs. To connect a graphic source successfully to a display, the bit assignment of D[27:0] is critical (and not necessarily intuitive).[see datasheet]", 15 D15 (in) "Data inputs. To connect a graphic source successfully to a display, the bit assignment of D[27:0] is critical (and not necessarily intuitive).[see datasheet]", 16 D16 (in) "Data inputs. To connect a graphic source successfully to a display, the bit assignment of D[27:0] is critical (and not necessarily intuitive).[see datasheet]", 17 CLKSEL (in) "Selects between rising edge input clock trigger (CLKSEL = VIH) and falling edge input clock trigger (CLKSEL = VIL).", 18 D17 (in) "Data inputs. To connect a graphic source successfully to a display, the bit assignment of D[27:0] is critical (and not necessarily intuitive).[see datasheet]", 19 D18 (in) "Data inputs. To connect a graphic source successfully to a display, the bit assignment of D[27:0] is critical (and not necessarily intuitive).[see datasheet]", 20 D19 (in) "Data inputs. To connect a graphic source successfully to a display, the bit assignment of D[27:0] is critical (and not necessarily intuitive).[see datasheet]", 21 GND (power) "Supply Ground for VCC, LVDSVCC, and PLLVCC.", 22 D20 (in) "Data inputs. To connect a graphic source successfully to a display, the bit assignment of D[27:0] is critical (and not necessarily intuitive).[see datasheet]", 23 D21 (in) "Data inputs. To connect a graphic source successfully to a display, the bit assignment of D[27:0] is critical (and not necessarily intuitive).[see datasheet]", 24 D22 (in) "Data inputs. To connect a graphic source successfully to a display, the bit assignment of D[27:0] is critical (and not necessarily intuitive).[see datasheet]", 25 D23 (in) "Data inputs. To connect a graphic source successfully to a display, the bit assignment of D[27:0] is critical (and not necessarily intuitive).[see datasheet]", 26 VCC (power) "3.3V digital Supply Voltage", 27 D24 (in) "Data inputs. To connect a graphic source successfully to a display, the bit assignment of D[27:0] is critical (and not necessarily intuitive).[see datasheet]", 28 D25 (in) "Data inputs. To connect a graphic source successfully to a display, the bit assignment of D[27:0] is critical (and not necessarily intuitive).[see datasheet]", 29 GND (power) "Supply Ground for VCC, LVDSVCC, and PLLVCC.", 30 D26 (in) "Data inputs. To connect a graphic source successfully to a display, the bit assignment of D[27:0] is critical (and not necessarily intuitive).[see datasheet]", 31 CLKIN (in) "Input pixel clock; rising or falling clock polarity is selectable by Control input CLKSEL.", 32 ~{SHTDN} (in) "Device shut down; pull low (de-assert) to shut down the device (low power, resets all registers) and high (assert) for normal operation.", 33 GND (power) "Supply Ground for VCC, LVDSVCC, and PLLVCC.", 34 PLLVCC (power) "3.3V PLL analog supply", 35 GND (power) "Supply Ground for VCC, LVDSVCC, and PLLVCC.", 36 GND (power) "Supply Ground for VCC, LVDSVCC, and PLLVCC.", 37 Y3P (hiz) "Differential LVDS Data outputs.Output is high-impedance when S\H\T\D\N\ is pulled low (de-asserted).Note: if the application only requires 18-bit color, this output can be left open.", 38 Y3M (hiz) "Differential LVDS Data outputs.Output is high-impedance when S\H\T\\D\N\ is pulled low (de-asserted).Note: if the application only requires 18-bit color, this output can be left open.", 39 CLKOUTP (hiz) "Differential LVDS pixel clock output.Output is high-impedance when S\H\T\D\N\ is pulled low (de-asserted).", 40 CLKOUTM (hiz) "Differential LVDS pixel clock output.Output is high-impedance when S\H\T\D\N\ is pulled low (de-asserted).", 41 Y2P (hiz) "Differential LVDS data outputs.Outputs are high-impedance when S\H\T\D\N\ is pulled low (de-asserted)", 42 Y2M (hiz) "Differential LVDS data outputs.Outputs are high-impedance when S\H\T\D\N\ is pulled low (de-asserted)", 43 GND (power) "Supply Ground for VCC, LVDSVCC, and PLLVCC.", 44 LVDSVCC (power) "3.3V LVDS output analog supply", 45 Y1P (hiz) "Differential LVDS data outputs.Outputs are high-impedance when S\H\T\D\N\ is pulled low (de-asserted)", 46 Y1M (hiz) "Differential LVDS data outputs.Outputs are high-impedance when S\H\T\D\N\ is pulled low (de-asserted)", 47 Y0P (hiz) "Differential LVDS data outputs.Outputs are high-impedance when S\H\T\D\N\ is pulled low (de-asserted)", 48 Y0M (hiz) "Differential LVDS data outputs.Outputs are high-impedance when S\H\T\D\N\ is pulled low (de-asserted)", 49 GND (power) "Supply Ground for VCC, LVDSVCC, and PLLVCC.", 50 D27 (in) "Data inputs. To connect a graphic source successfully to a display, the bit assignment of D[27:0] is critical (and not necessarily intuitive).", 51 D0 (in) "Data inputs. To connect a graphic source successfully to a display, the bit assignment of D[27:0] is critical (and not necessarily intuitive).", 52 D1 (in) "Data inputs. To connect a graphic source successfully to a display, the bit assignment of D[27:0] is critical (and not necessarily intuitive).", 53 GND (power) "Supply Ground for VCC, LVDSVCC, and PLLVCC.", 54 D2 (in) "Data inputs. To connect a graphic source successfully to a display, the bit assignment of D[27:0] is critical (and not necessarily intuitive).", 55 D3 (in) "Data inputs. To connect a graphic source successfully to a display, the bit assignment of D[27:0] is critical (and not necessarily intuitive).", 56 D4 (in) "Data inputs. To connect a graphic source successfully to a display, the bit assignment of D[27:0] is critical (and not necessarily intuitive)."